# EAGLE library part BREAKOUT_HEADER_2 (library EE)
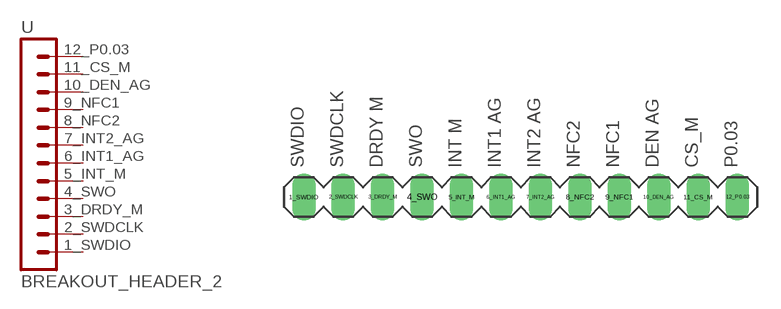
[diagram p2: symbol with the pads of BRH2; footprint BRH2]

Designator prefix -

## BREAKOUT_HEADER_2  [BRH2]
1_SWDIO  1_SWDIO  pas
2_SWDCLK  2_SWDCLK  pas
3_DRDY_M  3_DRDY_M  pas
4_SWO  4_SWO  pas
5_INT_M  5_INT_M  pas
6_INT1_AG  6_INT1_AG  pas
7_INT2_AG  7_INT2_AG  pas
8_NFC2  8_NFC2  pas
9_NFC1  9_NFC1  pas
10_DEN_AG  10_DEN_AG  pas
11_CS_M  11_CS_M  pas
12_P0.03  12_P0.03  pas

## Footprint BRH2 (pad centres in mm)
PIN HEADER
drill 1.016 long: 1_SWDIO -13.97,0; 2_SWDCLK -11.43,0; 3_DRDY_M -8.89,0; 4_SWO -6.35,0; 5_INT_M -3.81,0; 6_INT1_AG -1.27,0; 7_INT2_AG 1.27,0; 8_NFC2 3.81,0; 9_NFC1 6.35,0; 10_DEN_AG 8.89,0; 11_CS_M 11.43,0; 12_P0.03 13.97,0